# EAGLE library part SF-6DOF (library sf-keyglovekit)
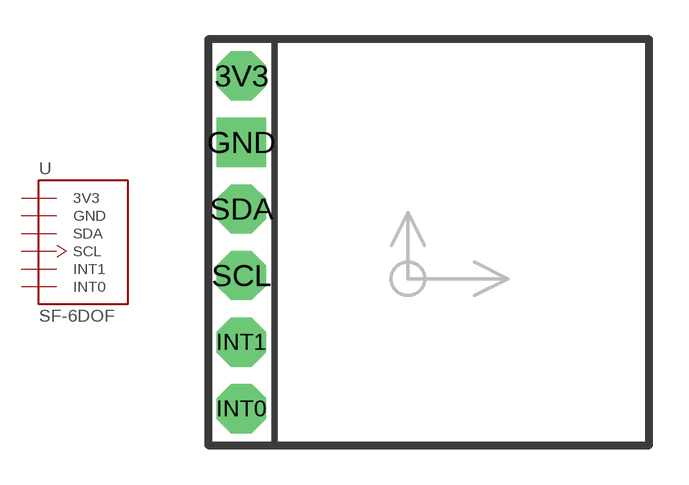
[diagram p6: symbol with the pads of SF-6DOF; footprint SF-6DOF]

Designator prefix -

## SF-6DOF  [SF-6DOF]
3V3  3V3  pwr
GND  GND  pwr
INT0  INT0  out
INT1  INT1  out
SCL  SCL
SDA  SDA

## Footprint SF-6DOF (pad centres in mm)
drill 1.016 pad 1.88 octagon: 3V3 1.27,14.097; INT0 1.27,1.397; INT1 1.27,3.937; SCL 1.27,6.477; SDA 1.27,9.017
drill 1.016 pad 1.88 square: GND 1.27,11.557